# EAGLE library part MCP3208 (library MCP3208)
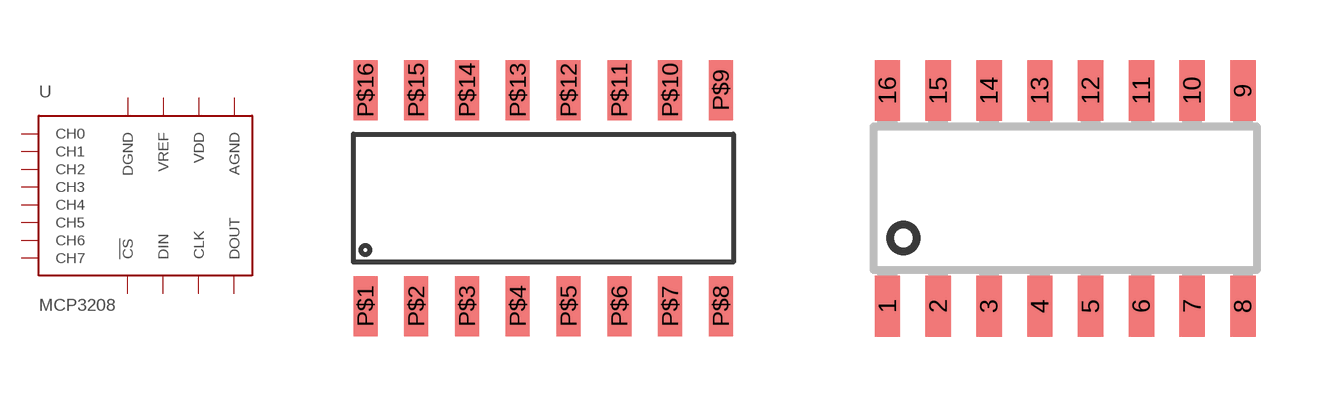
[diagram p0: symbol with the pads of PDIP16; footprints PDIP16, SOIC16]

Designator prefix -

## MCP3208  [PDIP16]
P$1  CH0
P$2  CH1
P$3  CH2
P$4  CH3
P$5  CH4
P$6  CH5
P$7  CH6
P$8  CH7
P$9  DGND
P$10  !CS
P$11  DIN
P$12  DOUT
P$13  CLK
P$14  AGND
P$15  VREF
P$16  VDD

## MCP3208-BI/SL  [SOIC16]
1  CH0
2  CH1
3  CH2
4  CH3
5  CH4
6  CH5
7  CH6
8  CH7
9  DGND
10  !CS
11  DIN
12  DOUT
13  CLK
14  AGND
15  VREF
16  VDD

## Footprint PDIP16 (pad centres in mm)
smd 0.6 x 1.5: P$1 0,0; P$2 1.27,0; P$3 2.54,0; P$4 3.81,0; P$5 5.08,0; P$6 6.35,0; P$7 7.62,0; P$8 8.89,0; P$9 8.89,5.4; P$10 7.62,5.4; P$11 6.35,5.4; P$12 5.08,5.4; P$13 3.81,5.4; P$14 2.54,5.4; P$15 1.27,5.4; P$16 0,5.4

## Footprint SOIC16 (pad centres in mm)
SMALL OUTLINE INTEGRATED CIRCUIT 16-Pin (150-Mil) SOIC Source: http://www.cypress.com .. 38-12025_0P_V.pdf
smd 0.635 x 1.524: 1 -4.445,-2.695; 2 -3.175,-2.695; 3 -1.905,-2.695; 4 -0.635,-2.695; 5 0.635,-2.695; 6 1.905,-2.695; 7 3.175,-2.695; 8 4.445,-2.695; 9 4.445,2.695; 10 3.175,2.695; 11 1.905,2.695; 12 0.635,2.695; 13 -0.635,2.695; 14 -1.905,2.695; 15 -3.175,2.695; 16 -4.445,2.695